# EAGLE library part BQ2970 (library oresat-batteries)
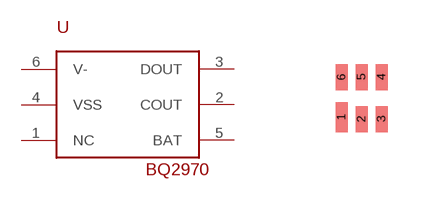
[diagram p1: symbol with the pads of PSOP6; footprint PSOP6]

Designator prefix -

## BQ2970  [PSOP6]
1  NC
2  COUT
3  DOUT
4  VSS
5  BAT
6  V-

## Footprint PSOP6 (pad centres in mm)
smd 0.3 x 0.75: 1 -0.5,-0.475
smd 0.3 x 0.65: 2 0,-0.525; 3 0.5,-0.525; 4 0.5,0.525; 5 0,0.525; 6 -0.5,0.525